# Altium schematic symbol library conn-9x2_0.Schlib: 1 symbol
Pins are listed as number, name and electrical type; pins without a type are passive.

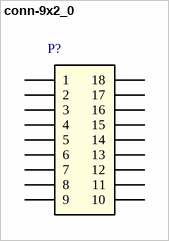
[diagram p0: symbol conn-9x2_0]

## conn-9x2_0
designator P?  (value not drawn)
Connector, 9x2
pins: 1, 2, 3, 4, 5, 6, 7, 8, 9, 10, 11, 12, 13, 14, 15, 16, 17, 18